# Altium schematic symbol library ZXCT1010.SchLib: 1 symbol
Pins are listed as number, name and electrical type; pins without a type are passive.

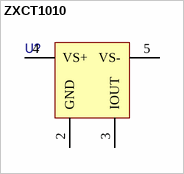
[diagram p0: symbol ZXCT1010]

## ZXCT1010
designator U?  (value not drawn)
pins: 2 GND, 3 IOUT, 4 VS+, 5 VS-